# Altium schematic symbol library OpAmp.SchLib: 2 symbols
Pins are listed as number, name and electrical type; pins without a type are passive.

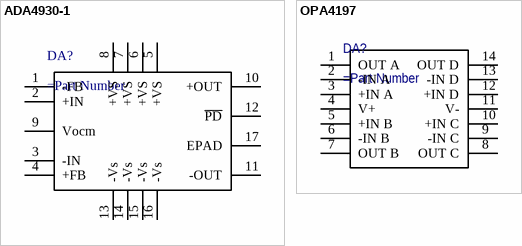
[diagram p0: symbols ADA4930-1 to OPA4197]

## ADA4930-1
designator DA?
pins: 1 -FB, 2 +IN, 3 -IN, 4 +FB, 5 +VS, 6 +VS, 7 +VS, 8 +VS, 9 Vocm, 10 +OUT, 11 -OUT, 12 ~{PD}, 13 -Vs, 14 -Vs, 15 -Vs, 16 -Vs, 17 EPAD

## OPA4197
designator DA?
pins: 1 OUT A, 2 -IN A, 3 +IN A, 4 V+, 5 +IN B, 6 -IN B, 7 OUT B, 8 OUT C, 9 -IN C, 10 +IN C, 11 V-, 12 +IN D, 13 -IN D, 14 OUT D